# Altium footprint library Arduino_DUE_V02b_Template2.PcbLib: 5 footprints
Each footprint in its own frame and in the unit in brackets; x right, y up, seen from the top. Pads: shape width x height; smd on the part's side, far side on the other; paste and mask are expansions set on the pad; w line width, h text height; cw(c..) or ccw(c..) is an arc to the next point about the centre after c.
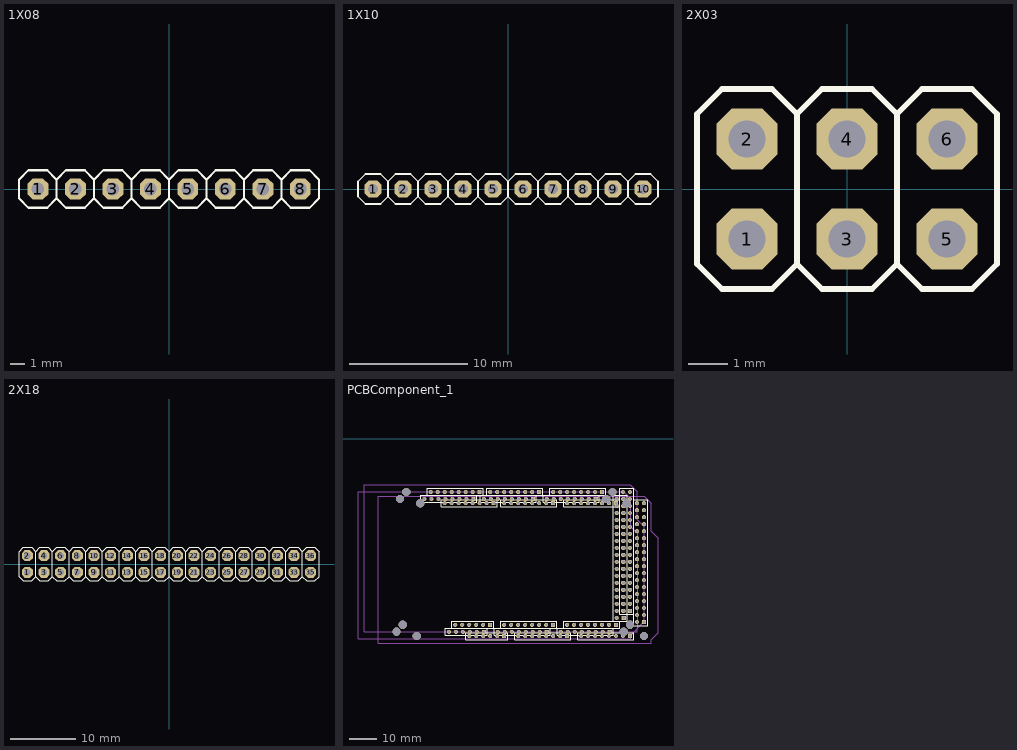
[diagram p0: the footprints below, top view; thin cyan lines are the x and y axes]

## 1X08 [mil]
pads (8):
  oct 56x56 hole 33.46: 1(-350,0) 2(-250,0) 3(-150,0) 4(-50,0) 5(50,0) 6(150,0) 7(250,0) 8(350,0)
Top Overlay:
  rectangle: 240,-10 260,10
  rectangle: 140,-10 160,10
  rectangle: 40,-10 60,10
  rectangle: -60,-10 -40,10
  rectangle: -160,-10 -140,10
  rectangle: -260,-10 -240,10
  rectangle: -360,-10 -340,10
  rectangle: 340,-10 360,10
  lines w6: -300,-25 -300,25 ; -300,-25 -325,-50 -375,-50 -400,-25 -400,25 -375,50 -325,50 -300,25 ; -300,-25 -275,-50 -225,-50 -200,-25 ; -300,25 -275,50 -225,50 -200,25 ; -200,-25 -175,-50 -125,-50 -100,-25 ; -200,-25 -200,25 ; -200,25 -175,50 -125,50 -100,25 ; -100,-25 -100,25 ; -100,-25 -75,-50 -25,-50 0,-25 ; -100,25 -75,50 -25,50 0,25 ; 0,-25 0,25 ; 0,-25 25,-50 75,-50 100,-25 ; 0,25 25,50 75,50 100,25 ; 100,-25 125,-50 175,-50 200,-25 ; 100,-25 100,25 ; 100,25 125,50 175,50 200,25 ; 200,-25 200,25 ; 200,-25 225,-50 275,-50 300,-25 ; 200,25 225,50 275,50 300,25 ; 300,-25 300,25 ; 300,-25 325,-50 375,-50 400,-25 400,25 375,50 325,50 300,25

## 1X10 [mil]
pads (10):
  oct 56x56 hole 33.46: 1(-450,0) 2(-350,0) 3(-250,0) 4(-150,0) 5(-50,0) 6(50,0) 7(150,0) 8(250,0) 9(350,0) 10(450,0)
Top Overlay:
  rectangle: 440,-10 460,10
  rectangle: -460,-10 -440,10
  rectangle: -360,-10 -340,10
  rectangle: -260,-10 -240,10
  rectangle: -160,-10 -140,10
  rectangle: -60,-10 -40,10
  rectangle: 40,-10 60,10
  rectangle: 140,-10 160,10
  rectangle: 240,-10 260,10
  rectangle: 340,-10 360,10
  lines w6: -400,-25 -375,-50 -325,-50 -300,-25 ; -400,-25 -425,-50 -475,-50 -500,-25 -500,25 -475,50 -425,50 -400,25 ; -400,-25 -400,25 ; -400,25 -375,50 -325,50 -300,25 ; -300,-25 -300,25 ; -300,-25 -275,-50 -225,-50 -200,-25 ; -300,25 -275,50 -225,50 -200,25 ; -200,-25 -175,-50 -125,-50 -100,-25 ; -200,-25 -200,25 ; -200,25 -175,50 -125,50 -100,25 ; -100,-25 -75,-50 -25,-50 0,-25 ; -100,-25 -100,25 ; -100,25 -75,50 -25,50 0,25 ; 0,-25 0,25 ; 0,-25 25,-50 75,-50 100,-25 ; 0,25 25,50 75,50 100,25 ; 100,-25 125,-50 175,-50 200,-25 ; 100,-25 100,25 ; 100,25 125,50 175,50 200,25 ; 200,-25 225,-50 275,-50 300,-25 ; 200,-25 200,25 ; 200,25 225,50 275,50 300,25 ; 300,-25 300,25 ; 300,-25 325,-50 375,-50 400,-25 ; 300,25 325,50 375,50 400,25 ; 400,-25 425,-50 475,-50 500,-25 500,25 475,50 425,50 400,25 ; 400,-25 400,25

## 2X03 [mm]
pads (6):
  oct 1.55x1.55 hole 0.95: 1(-2.54,-1.27) 2(-2.54,1.27) 3(0,-1.27) 4(0,1.27) 5(2.54,-1.27) 6(2.54,1.27)
Top Overlay:
  rectangle: 2.286,-1.524 2.794,-1.016
  rectangle: 2.286,1.016 2.794,1.524
  rectangle: -0.254,-1.524 0.254,-1.016
  rectangle: -0.254,1.016 0.254,1.524
  rectangle: -2.794,1.016 -2.286,1.524
  rectangle: -2.794,-1.524 -2.286,-1.016
  lines w0.152: -1.27,-1.905 -1.27,1.905 ; -1.27,-1.905 -0.635,-2.54 0.635,-2.54 1.27,-1.905 ; -1.27,-1.905 -1.905,-2.54 -3.175,-2.54 -3.81,-1.905 -3.81,1.905 -3.175,2.54 -1.905,2.54 -1.27,1.905 ; -1.27,1.905 -0.635,2.54 0.635,2.54 1.27,1.905 ; 1.27,-1.905 1.905,-2.54 3.175,-2.54 3.81,-1.905 3.81,1.905 3.175,2.54 1.905,2.54 1.27,1.905 ; 1.27,-1.905 1.27,1.905

## 2X18 [mil]
pads (36):
  oct 66x66 hole 37.4: 1(-850,-50) 2(-850,50) 3(-750,-50) 4(-750,50) 5(-650,-50) 6(-650,50) 7(-550,-50) 8(-550,50) 9(-450,-50) 10(-450,50) 11(-350,-50) 12(-350,50) 13(-250,-50) 14(-250,50) 15(-150,-50) 16(-150,50) 17(-50,-50) 18(-50,50) 19(50,-50) 20(50,50) 21(150,-50) 22(150,50) 23(250,-50) 24(250,50) 25(350,-50) 26(350,50) 27(450,-50) 28(450,50) 29(550,-50) 30(550,50) 31(650,-50) 32(650,50) 33(750,-50) 34(750,50) 35(850,-50) 36(850,50)
Top Overlay:
  drawing of 163 lines, arcs and shapes, not listed

## PCBComponent_1 [mm]
pads (246):
  rect 1.5x1.5 hole 0.9: 0(81.661,-21.844) 0(83.947,-19.304) 0(89.027,-23.368) 8(60.071,-21.844) 8(62.357,-19.304) 8(67.437,-23.368) 21(104.521,-21.844) 21(106.807,-19.304) 21(111.887,-23.368) 59(63.881,-70.104) 59(66.167,-67.564) 59(71.247,-71.628) 67(86.741,-70.104) 67(89.027,-67.564) 67(94.107,-71.628) 75(109.601,-70.104) 75(111.887,-67.564) 75(116.967,-71.628) 79(114.681,-65.024) 79(116.967,-62.484) 79(122.047,-66.548)
  round 1.5 hole 0.9: 1(79.121,-21.844) 1(81.407,-19.304) 1(86.487,-23.368) 2(76.581,-21.844) 2(78.867,-19.304) 2(83.947,-23.368) 3(74.041,-21.844) 3(76.327,-19.304) 3(81.407,-23.368) 4(71.501,-21.844) 4(73.787,-19.304) 4(78.867,-23.368) 5(68.961,-21.844) 5(71.247,-19.304) 5(76.327,-23.368) 6(66.421,-21.844) 6(68.707,-19.304) 6(73.787,-23.368) 7(63.881,-21.844) 7(66.167,-19.304) 7(71.247,-23.368) 9(57.531,-21.844) 9(59.817,-19.304) 9(64.897,-23.368) 10(54.991,-21.844) 10(57.277,-19.304) 10(62.357,-23.368) 11(52.451,-21.844) 11(54.737,-19.304) 11(59.817,-23.368) 12(49.911,-21.844) 12(52.197,-19.304) 12(57.277,-23.368) 13(47.371,-21.844) 13(49.657,-19.304) 13(54.737,-23.368) 14(86.741,-21.844) 14(89.027,-19.304) 14(94.107,-23.368) 15(89.281,-21.844) 15(91.567,-19.304) 15(96.647,-23.368) 16(91.821,-21.844) 16(94.107,-19.304) 16(99.187,-23.368) 17(94.361,-21.844) 17(96.647,-19.304) 17(101.727,-23.368) 18(96.901,-21.844) 18(99.187,-19.304) 18(104.267,-23.368) 19(99.441,-21.844) 19(101.727,-19.304) 19(106.807,-23.368) 20(101.981,-21.844) 20(104.267,-19.304) 20(109.347,-23.368) 22(112.141,-24.384) 22(114.427,-21.844) 22(119.507,-25.908) 23(114.681,-24.384) 23(116.967,-21.844) 23(122.047,-25.908) 24(112.141,-26.924) 24(114.427,-24.384) 24(119.507,-28.448) 25(114.681,-26.924) 25(116.967,-24.384) 25(122.047,-28.448) 26(112.141,-29.464) 26(114.427,-26.924) 26(119.507,-30.988) 27(114.681,-29.464) 27(116.967,-26.924) 27(122.047,-30.988) 28(112.141,-32.004) 28(114.427,-29.464) 28(119.507,-33.528) 29(114.681,-32.004) 29(116.967,-29.464) 29(122.047,-33.528) 30(112.141,-34.544) 30(114.427,-32.004) 30(119.507,-36.068) 31(114.681,-34.544) 31(116.967,-32.004) 31(122.047,-36.068) 32(112.141,-37.084) 32(114.427,-34.544) 32(119.507,-38.608) 33(114.681,-37.084) 33(116.967,-34.544) 33(122.047,-38.608) 34(112.141,-39.624) 34(114.427,-37.084) 34(119.507,-41.148) 35(114.681,-39.624) 35(116.967,-37.084) 35(122.047,-41.148) 36(112.141,-42.164) 36(114.427,-39.624) 36(119.507,-43.688) 37(114.681,-42.164) 37(116.967,-39.624) 37(122.047,-43.688) 38(112.141,-44.704) 38(114.427,-42.164) 38(119.507,-46.228) 39(114.681,-44.704) 39(116.967,-42.164) 39(122.047,-46.228) 40(112.141,-47.244) 40(114.427,-44.704) 40(119.507,-48.768) 41(114.681,-47.244) 41(116.967,-44.704) 41(122.047,-48.768) 42(112.141,-49.784) 42(114.427,-47.244) 42(119.507,-51.308) 43(114.681,-49.784) 43(116.967,-47.244) 43(122.047,-51.308) 44(112.141,-52.324) 44(114.427,-49.784) 44(119.507,-53.848) 45(114.681,-52.324) 45(116.967,-49.784) 45(122.047,-53.848) 46(112.141,-54.864) 46(114.427,-52.324) 46(119.507,-56.388) 47(114.681,-54.864) 47(116.967,-52.324) 47(122.047,-56.388) 48(112.141,-57.404) 48(114.427,-54.864) 48(119.507,-58.928) 49(114.681,-57.404) 49(116.967,-54.864) 49(122.047,-58.928) 50(112.141,-59.944) 50(114.427,-57.404) 50(119.507,-61.468) 51(114.681,-59.944) 51(116.967,-57.404) 51(122.047,-61.468) 52(112.141,-62.484) 52(114.427,-59.944) 52(119.507,-64.008) 53(114.681,-62.484) 53(116.967,-59.944) 53(122.047,-64.008) 54(51.181,-70.104) 54(53.467,-67.564) 54(58.547,-71.628) 55(53.721,-70.104) 55(56.007,-67.564) 55(61.087,-71.628) 56(56.261,-70.104) 56(58.547,-67.564) 56(63.627,-71.628) 57(58.801,-70.104) 57(61.087,-67.564) 57(66.167,-71.628) 58(61.341,-70.104) 58(63.627,-67.564) 58(68.707,-71.628) 60(68.961,-70.104) 60(71.247,-67.564) 60(76.327,-71.628) 61(71.501,-70.104) 61(73.787,-67.564) 61(78.867,-71.628) 62(74.041,-70.104) 62(76.327,-67.564) 62(81.407,-71.628) 63(76.581,-70.104) 63(78.867,-67.564) 63(83.947,-71.628) 64(79.121,-70.104) 64(81.407,-67.564) 64(86.487,-71.628) 65(81.661,-70.104) 65(83.947,-67.564) 65(89.027,-71.628) 66(84.201,-70.104) 66(86.487,-67.564) 66(91.567,-71.628) 68(91.821,-70.104) 68(94.107,-67.564) 68(99.187,-71.628) 69(94.361,-70.104) 69(96.647,-67.564) 69(101.727,-71.628) 70(96.901,-70.104) 70(99.187,-67.564) 70(104.267,-71.628) 71(99.441,-70.104) 71(101.727,-67.564) 71(106.807,-71.628) 72(101.981,-70.104) 72(104.267,-67.564) 72(109.347,-71.628) 73(104.521,-70.104) 73(106.807,-67.564) 73(111.887,-71.628) 74(107.061,-70.104) 74(109.347,-67.564) 74(114.427,-71.628) 76(44.831,-21.844) 76(47.117,-19.304) 76(52.197,-23.368) 77(42.291,-21.844) 77(44.577,-19.304) 77(49.657,-23.368) 78(112.141,-65.024) 78(114.427,-62.484) 78(119.507,-66.548) 80(114.681,-21.844) 80(116.967,-19.304) 80(122.047,-23.368) 81(112.141,-21.844) 81(114.427,-19.304) 81(119.507,-23.368)
via 116.967,-67.564 diameter 3 hole 3
via 110.617,-19.304 diameter 3 hole 3
via 35.687,-19.304 diameter 3 hole 3
via 34.417,-67.564 diameter 3 hole 3
via 122.047,-71.628 diameter 3 hole 3
via 115.697,-23.368 diameter 3 hole 3
via 40.767,-23.368 diameter 3 hole 3
via 39.497,-71.628 diameter 3 hole 3
via 114.681,-70.104 diameter 3 hole 3
via 108.331,-21.844 diameter 3 hole 3
via 33.401,-21.844 diameter 3 hole 3
via 32.131,-70.104 diameter 3 hole 3
Top Overlay:
  lines w0.2: 41.021,-23.114 61.341,-23.114 61.341,-20.574 41.021,-20.574 41.021,-23.114 ; 43.307,-20.574 63.627,-20.574 63.627,-18.034 43.307,-18.034 43.307,-20.574 ; 48.387,-24.638 68.707,-24.638 68.707,-22.098 48.387,-22.098 48.387,-24.638 ; 49.911,-71.374 49.911,-68.834 65.151,-68.834 65.151,-71.374 49.911,-71.374 ; 52.197,-68.834 52.197,-66.294 67.437,-66.294 67.437,-68.834 52.197,-68.834 ; 57.277,-72.898 57.277,-70.358 72.517,-70.358 72.517,-72.898 57.277,-72.898 ; 62.611,-23.114 82.931,-23.114 82.931,-20.574 62.611,-20.574 62.611,-23.114 ; 64.897,-20.574 85.217,-20.574 85.217,-18.034 64.897,-18.034 64.897,-20.574 ; 67.691,-71.374 88.011,-71.374 88.011,-68.834 67.691,-68.834 67.691,-71.374 ; 69.977,-68.834 90.297,-68.834 90.297,-66.294 69.977,-66.294 69.977,-68.834 ; 69.977,-24.638 90.297,-24.638 90.297,-22.098 69.977,-22.098 69.977,-24.638 ; 75.057,-72.898 95.377,-72.898 95.377,-70.358 75.057,-70.358 75.057,-72.898 ; 85.471,-23.114 85.471,-20.574 105.791,-20.574 105.791,-23.114 85.471,-23.114 ; 87.757,-20.574 87.757,-18.034 108.077,-18.034 108.077,-20.574 87.757,-20.574 ; 90.551,-71.374 110.871,-71.374 110.871,-68.834 90.551,-68.834 90.551,-71.374 ; 92.837,-68.834 113.157,-68.834 113.157,-66.294 92.837,-66.294 92.837,-68.834 ; 92.837,-24.638 92.837,-22.098 113.157,-22.098 113.157,-24.638 92.837,-24.638 ; 97.917,-72.898 118.237,-72.898 118.237,-70.358 97.917,-70.358 97.917,-72.898 ; 110.871,-66.294 115.951,-66.294 115.951,-20.574 110.871,-20.574 110.871,-66.294 ; 113.157,-63.754 118.237,-63.754 118.237,-18.034 113.157,-18.034 113.157,-63.754 ; 118.237,-67.818 123.317,-67.818 123.317,-22.098 118.237,-22.098 118.237,-67.818
Mechanical 1:
  lines w0.254: 117.221,-32.014 119.761,-34.554 119.761,-68.834 117.221,-71.374 117.221,-72.644 19.801,-72.644 18.161,-72.644 18.161,-71.004 18.161,-19.304 114.681,-19.304 117.221,-21.844 117.221,-32.004 ; 119.507,-29.474 122.047,-32.014 122.047,-66.294 119.507,-68.834 119.507,-70.104 22.087,-70.104 20.447,-70.104 20.447,-68.464 20.447,-16.764 116.967,-16.764 119.507,-19.304 119.507,-29.464 ; 124.587,-33.538 127.127,-36.078 127.127,-70.358 124.587,-72.898 124.587,-74.168 27.167,-74.168 25.527,-74.168 25.527,-72.528 25.527,-20.828 122.047,-20.828 124.587,-23.368 124.587,-33.528